# Altium footprint library 500SSP1S1M6QEA_SPDT.PcbLib: 1 footprints
Each footprint in its own frame and in the unit in brackets; x right, y up, seen from the top. Pads: shape width x height; smd on the part's side, far side on the other; paste and mask are expansions set on the pad; w line width, h text height; cw(c..) or ccw(c..) is an arc to the next point about the centre after c.
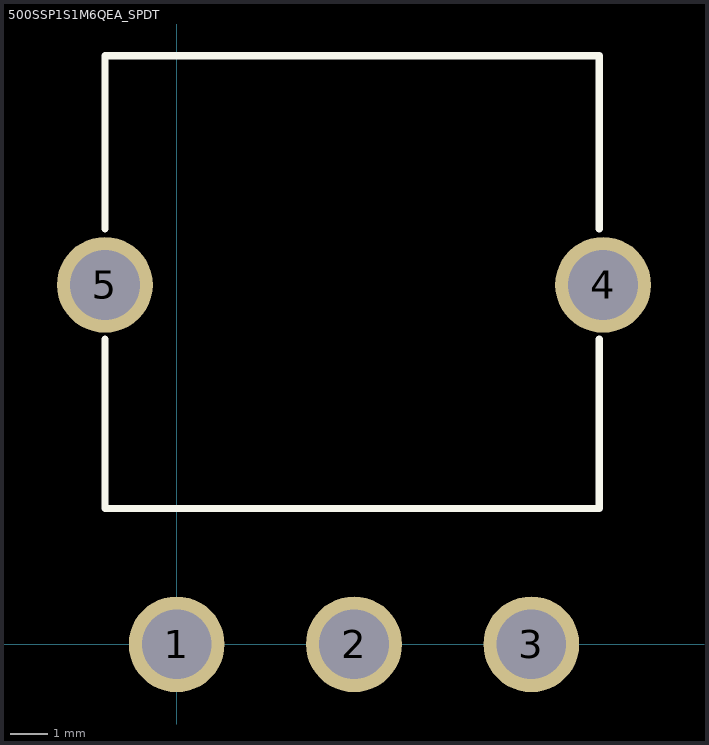
[diagram p0: the footprint, top view; thin cyan lines are the x and y axes]

## 500SSP1S1M6QEA_SPDT [mm]
pads (5):
  round 2.54 hole 1.85: 1(0,0) 2(4.7,0) 3(9.4,0)
  round 2.54 hole 1.854: 4(11.305,9.53) 5(-1.905,9.53)
Top Overlay:
  lines w0.191: -1.905,8.095 -1.905,3.6 11.2,3.6 11.2,8.095 ; -1.905,11.005 -1.905,15.6 11.2,15.6 11.2,11.005
3D body "500SSPxS1M6xEA.stp": height 6.61, standoff -3.17, extent -2.1,-0.595 11.47,15.595